# Altium schematic symbol library MCP MCP1700 MAY.SchLib: 1 symbol
Pins are listed as number, name and electrical type; pins without a type are passive.

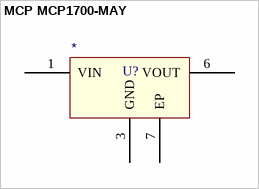
[diagram p0: symbol MCP MCP1700-MAY]

## MCP MCP1700-MAY
designator U?
Part Number: *
pins: 1 VIN (power), 3 GND (power), 6 VOUT (power), 7 EP (power)